# Altium schematic symbol library SCH - OPAMP - AD8554ARZ.SCHLIB: 1 symbol
Pins are listed as number, name and electrical type; pins without a type are passive.

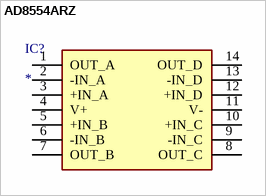
[diagram p0: symbol AD8554ARZ]

## AD8554ARZ
designator IC?
Integrated Circuit
pins: 1 OUT_A, 2 -IN_A, 3 +IN_A, 4 V+, 5 +IN_B, 6 -IN_B, 7 OUT_B, 8 OUT_C, 9 -IN_C, 10 +IN_C, 11 V-, 12 +IN_D, 13 -IN_D, 14 OUT_D